# EAGLE library part AT32UC3B0256 (library X893)
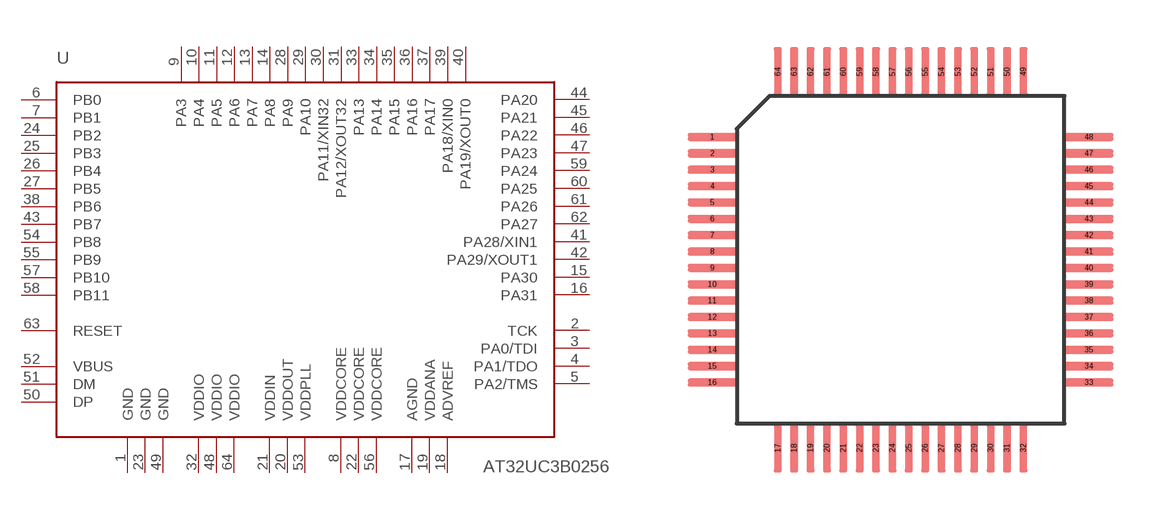
[diagram p63: symbol with the pads of TQFP64-10X10; footprint TQFP64-10X10]

Designator prefix U

## AT32UC3B0256  [TQFP64-10X10]
1  GND  pwr
2  TCK
3  PA0/TDI
4  PA1/TDO
5  PA2/TMS
6  PB0
7  PB1
8  VDDCORE
9  PA3
10  PA4
11  PA5
12  PA6
13  PA7
14  PA8
15  PA30
16  PA31
17  AGND
18  ADVREF
19  VDDANA
20  VDDOUT
21  VDDIN
22  VDDCORE
23  GND  pwr
24  PB2
25  PB3
26  PB4
27  PB5
28  PA9
29  PA10
30  PA11/XIN32
31  PA12/XOUT32
32  VDDIO
33  PA13
34  PA14
35  PA15
36  PA16
37  PA17
38  PB6
39  PA18/XIN0
40  PA19/XOUT0
41  PA28/XIN1
42  PA29/XOUT1
43  PB7
44  PA20
45  PA21
46  PA22
47  PA23
48  VDDIO
49  GND  pwr
50  DP
51  DM
52  VBUS  pas
53  VDDPLL
54  PB8
55  PB9
56  VDDCORE
57  PB10
58  PB11
59  PA24
60  PA25
61  PA26
62  PA27
63  RESET  pas
64  VDDIO

## Footprint TQFP64-10X10 (pad centres in mm)
smd 1.5 x 0.25: 1 -5.75,3.75; 2 -5.75,3.25; 3 -5.75,2.75; 4 -5.75,2.25; 5 -5.75,1.75; 6 -5.75,1.25; 7 -5.75,0.75; 8 -5.75,0.25; 9 -5.75,-0.25; 10 -5.75,-0.75; 11 -5.75,-1.25; 12 -5.75,-1.75; 13 -5.75,-2.25; 14 -5.75,-2.75; 15 -5.75,-3.25; 16 -5.75,-3.75; 33 5.75,-3.75; 34 5.75,-3.25; 35 5.75,-2.75; 36 5.75,-2.25; 37 5.75,-1.75; 38 5.75,-1.25; 39 5.75,-0.75; 40 5.75,-0.25; 41 5.75,0.25; 42 5.75,0.75; 43 5.75,1.25; 44 5.75,1.75; 45 5.75,2.25; 46 5.75,2.75; 47 5.75,3.25; 48 5.75,3.75
smd 0.25 x 1.5: 17 -3.75,-5.75; 18 -3.25,-5.75; 19 -2.75,-5.75; 20 -2.25,-5.75; 21 -1.75,-5.75; 22 -1.25,-5.75; 23 -0.75,-5.75; 24 -0.25,-5.75; 25 0.25,-5.75; 26 0.75,-5.75; 27 1.25,-5.75; 28 1.75,-5.75; 29 2.25,-5.75; 30 2.75,-5.75; 31 3.25,-5.75; 32 3.75,-5.75; 49 3.75,5.75; 50 3.25,5.75; 51 2.75,5.75; 52 2.25,5.75; 53 1.75,5.75; 54 1.25,5.75; 55 0.75,5.75; 56 0.25,5.75; 57 -0.25,5.75; 58 -0.75,5.75; 59 -1.25,5.75; 60 -1.75,5.75; 61 -2.25,5.75; 62 -2.75,5.75; 63 -3.25,5.75; 64 -3.75,5.75